# Altium integrated library Capacitors - Ceramic - 0201.IntLib: 1723 symbols (part 23 of 38)
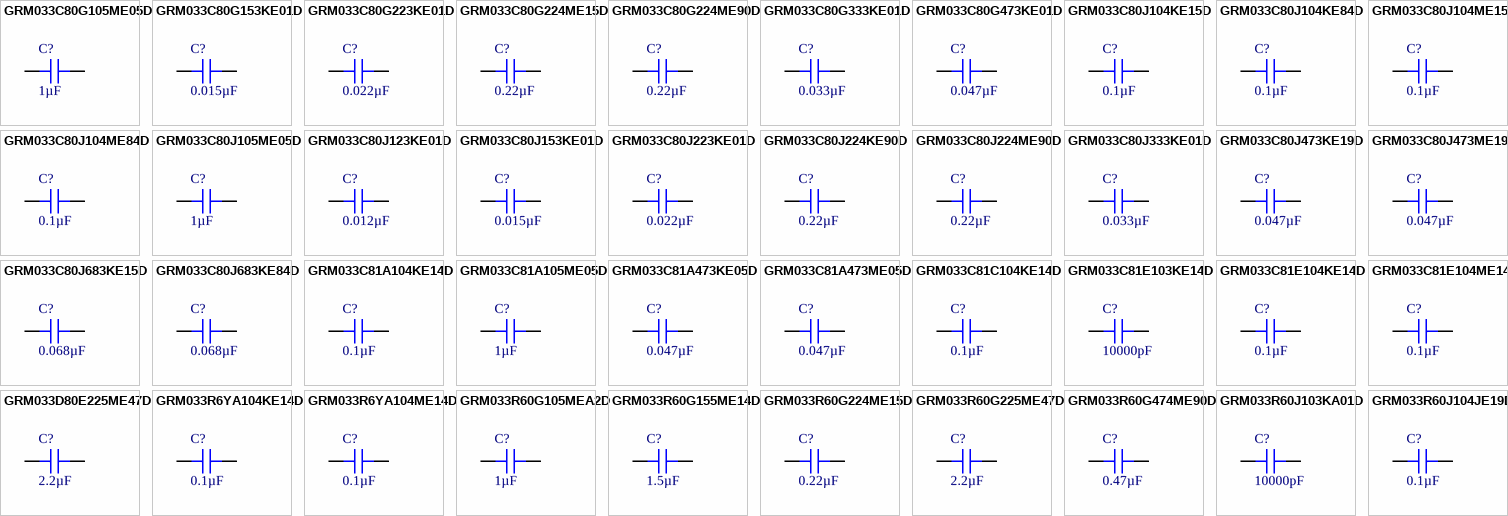
[diagram p65: symbols GRM033C80G105ME05D to GRM033R60J104JE19D]

## GRM033C80G105ME05D
designator C?, comment 1µF
CAP CER 1.0UF X6S 0201; Part Number: GRM033C80G105ME05D; Manufacturer: Murata Electronics; Tolerance: ±20%; Voltage - Rated: 4V; Value: 1µF; Applications: General Purpose; Capacitance: 1µF; ComponentLink1Description: Datasheet; ComponentLink1URL: https://search.murata.co.jp/Ceramy/image/img/A01X/G101/ENG/GRM033C80G105ME05-01A.pdf; ComponentLink2Description: DigiKey Link; ComponentLink2URL: http://digikey.com/product-detail/en/murata-electronics/GRM033C80G105ME05D/490-18622-1-ND/10269027; Device Package: 0201 (0603 Metric); LastUpdated: 9/2/2020 12:58:01 AM; Lifecycle Status: Active; Minimum Order: 1; Mounting Type: Surface Mount, MLCC; Operating Temperature: -55°C ~ 105°C; Package / Case: 0201 (0603 Metric); Packaging: TapeAndReel; PartId: 1594; Part Status: Active; Price: 0.02; Series: GRM; Size / Dimension: 0.024" L x 0.012" W (0.60mm x 0.30mm); Supplier 1: DigiKey; Supplier Part Number 1: 490-18622-1-ND; Temperature Coefficient: X6S; Thickness (Max): 0.015" (0.39mm)
footprint CAP 0201_0603
pins: 1, 2

## GRM033C80G153KE01D
designator C?, comment 0.015µF
CAP CER 0.015UF 4V X6S 0201; Part Number: GRM033C80G153KE01D; Manufacturer: Murata Electronics; Tolerance: ±10%; Value: 0.015µF; Applications: General Purpose; Capacitance: 0.015µF; ComponentLink1Description: Datasheet; ComponentLink1URL: https://www.murata.com/~/media/webrenewal/support/library/catalog/products/capacitor/mlcc/c02e.ashx?la=en-us; ComponentLink2Description: DigiKey Link; ComponentLink2URL: http://digikey.com/product-detail/en/murata-electronics/GRM033C80G153KE01D/490-17016-1-ND/7602015; Device Package: 0201 (0603 Metric); LastUpdated: 9/2/2020 1:00:14 AM; Lifecycle Status: Active; Minimum Order: 1; Mounting Type: Surface Mount, MLCC; Operating Temperature: -55°C ~ 105°C; Package / Case: 0201 (0603 Metric); Packaging: TapeAndReel; PartId: 66; Part Status: Active; Price: 0.01; Series: GRM; Size / Dimension: 0.024" L x 0.012" W (0.60mm x 0.30mm); Supplier 1: DigiKey; Supplier Part Number 1: 490-17016-1-ND; Temperature Coefficient: X6S; Thickness (Max): 0.013" (0.33mm); Voltage - Rated: 4V
footprint CAP 0201_0603
pins: 1, 2

## GRM033C80G223KE01D
designator C?, comment 0.022µF
CAP CER 0.022UF 4V X6S 0201; Part Number: GRM033C80G223KE01D; Manufacturer: Murata Electronics; Tolerance: ±10%; Value: 0.022µF; Applications: General Purpose; Capacitance: 0.022µF; ComponentLink1Description: Datasheet; ComponentLink1URL: https://www.murata.com/~/media/webrenewal/support/library/catalog/products/capacitor/mlcc/c02e.ashx?la=en-us; ComponentLink2Description: DigiKey Link; ComponentLink2URL: http://digikey.com/product-detail/en/murata-electronics/GRM033C80G223KE01D/490-17017-1-ND/7602016; Device Package: 0201 (0603 Metric); LastUpdated: 9/2/2020 1:00:17 AM; Lifecycle Status: Active; Minimum Order: 1; Mounting Type: Surface Mount, MLCC; Operating Temperature: -55°C ~ 105°C; Package / Case: 0201 (0603 Metric); Packaging: TapeAndReel; PartId: 20; Part Status: Active; Price: 0.01; Series: GRM; Size / Dimension: 0.024" L x 0.012" W (0.60mm x 0.30mm); Supplier 1: DigiKey; Supplier Part Number 1: 490-17017-1-ND; Temperature Coefficient: X6S; Thickness (Max): 0.013" (0.33mm); Voltage - Rated: 4V
footprint CAP 0201_0603
pins: 1, 2

## GRM033C80G224ME15D
designator C?, comment 0.22µF
CAP CER 0.22UF 4V X6S 0201; Part Number: GRM033C80G224ME15D; Manufacturer: Murata Electronics; Tolerance: ±20%; Value: 0.22µF; Applications: General Purpose; Capacitance: 0.22µF; ComponentLink1Description: Datasheet; ComponentLink1URL: https://search.murata.co.jp/Ceramy/image/img/A01X/G101/ENG/GRM033C80G224ME15-01.pdf; ComponentLink2Description: DigiKey Link; ComponentLink2URL: http://digikey.com/product-detail/en/murata-electronics/GRM033C80G224ME15D/490-10389-1-ND/5026262; Device Package: 0201 (0603 Metric); LastUpdated: 9/2/2020 1:00:02 AM; Lifecycle Status: Active; Minimum Order: 1; Mounting Type: Surface Mount, MLCC; Operating Temperature: -55°C ~ 105°C; Package / Case: 0201 (0603 Metric); Packaging: TapeAndReel; PartId: 199; Part Status: Active; Price: 0.01; Series: GRM; Size / Dimension: 0.024" L x 0.012" W (0.60mm x 0.30mm); Supplier 1: DigiKey; Supplier Part Number 1: 490-10389-1-ND; Temperature Coefficient: X6S; Thickness (Max): 0.013" (0.33mm); Voltage - Rated: 4V
footprint CAP 0201_0603
pins: 1, 2

## GRM033C80G224ME90D
designator C?, comment 0.22µF
CAP CER 0.22UF 4V X6S 0201; Part Number: GRM033C80G224ME90D; Manufacturer: Murata Electronics; Tolerance: ±20%; Value: 0.22µF; Applications: General Purpose; Capacitance: 0.22µF; ComponentLink1Description: Datasheet; ComponentLink1URL: https://search.murata.co.jp/Ceramy/image/img/A01X/G101/ENG/GRM033C80G224ME90-01.pdf; ComponentLink2Description: DigiKey Link; ComponentLink2URL: http://digikey.com/product-detail/en/murata-electronics/GRM033C80G224ME90D/490-16736-1-ND/7595644; Device Package: 0201 (0603 Metric); LastUpdated: 9/2/2020 12:59:17 AM; Lifecycle Status: Active; Minimum Order: 1; Mounting Type: Surface Mount, MLCC; Operating Temperature: -55°C ~ 105°C; Package / Case: 0201 (0603 Metric); Packaging: TapeAndReel; PartId: 728; Part Status: Active; Price: 0.01; Series: GRM; Size / Dimension: 0.024" L x 0.012" W (0.60mm x 0.30mm); Supplier 1: DigiKey; Supplier Part Number 1: 490-16736-1-ND; Temperature Coefficient: X6S; Thickness (Max): 0.013" (0.33mm); Voltage - Rated: 4V
footprint CAP 0201_0603
pins: 1, 2

## GRM033C80G333KE01D
designator C?, comment 0.033µF
CAP CER 0.033UF 4V X6S 0201; Part Number: GRM033C80G333KE01D; Manufacturer: Murata Electronics; Tolerance: ±10%; Value: 0.033µF; Applications: General Purpose; Capacitance: 0.033µF; ComponentLink1Description: Datasheet; ComponentLink1URL: https://www.murata.com/~/media/webrenewal/support/library/catalog/products/capacitor/mlcc/c02e.ashx?la=en-us; ComponentLink2Description: DigiKey Link; ComponentLink2URL: http://digikey.com/product-detail/en/murata-electronics/GRM033C80G333KE01D/490-17018-1-ND/7602017; Device Package: 0201 (0603 Metric); LastUpdated: 9/2/2020 1:00:12 AM; Lifecycle Status: Active; Minimum Order: 1; Mounting Type: Surface Mount, MLCC; Operating Temperature: -55°C ~ 105°C; Package / Case: 0201 (0603 Metric); Packaging: TapeAndReel; PartId: 82; Part Status: Active; Price: 0.01; Series: GRM; Size / Dimension: 0.024" L x 0.012" W (0.60mm x 0.30mm); Supplier 1: DigiKey; Supplier Part Number 1: 490-17018-1-ND; Temperature Coefficient: X6S; Thickness (Max): 0.013" (0.33mm); Voltage - Rated: 4V
footprint CAP 0201_0603
pins: 1, 2

## GRM033C80G473KE01D
designator C?, comment 0.047µF
CAP CER 0.047UF 4V X6S 0201; Part Number: GRM033C80G473KE01D; Manufacturer: Murata Electronics; Tolerance: ±10%; Value: 0.047µF; Applications: General Purpose; Capacitance: 0.047µF; ComponentLink1Description: Datasheet; ComponentLink1URL: https://www.murata.com/~/media/webrenewal/support/library/catalog/products/capacitor/mlcc/c02e.ashx?la=en-us; ComponentLink2Description: DigiKey Link; ComponentLink2URL: http://digikey.com/product-detail/en/murata-electronics/GRM033C80G473KE01D/490-17019-1-ND/7602018; Device Package: 0201 (0603 Metric); LastUpdated: 9/2/2020 12:58:05 AM; Lifecycle Status: Active; Minimum Order: 1; Mounting Type: Surface Mount, MLCC; Operating Temperature: -55°C ~ 105°C; Package / Case: 0201 (0603 Metric); Packaging: TapeAndReel; PartId: 1545; Part Status: Active; Price: 0.01; Series: GRM; Size / Dimension: 0.024" L x 0.012" W (0.60mm x 0.30mm); Supplier 1: DigiKey; Supplier Part Number 1: 490-17019-1-ND; Temperature Coefficient: X6S; Thickness (Max): 0.013" (0.33mm); Voltage - Rated: 4V
footprint CAP 0201_0603
pins: 1, 2

## GRM033C80J104KE15D
designator C?, comment 0.1µF
CAP CER 0.1UF 6.3V X6S 0201; Part Number: GRM033C80J104KE15D; Manufacturer: Murata Electronics; Tolerance: ±10%; Value: 0.1µF; Applications: General Purpose; Capacitance: 0.1µF; ComponentLink1Description: Datasheet; ComponentLink1URL: https://search.murata.co.jp/Ceramy/image/img/A01X/G101/ENG/GRM033C80J104KE15-01.pdf; ComponentLink2Description: DigiKey Link; ComponentLink2URL: http://digikey.com/product-detail/en/murata-electronics/GRM033C80J104KE15D/490-10390-1-ND/5026263; Device Package: 0201 (0603 Metric); LastUpdated: 9/2/2020 12:58:57 AM; Lifecycle Status: Active; Minimum Order: 1; Mounting Type: Surface Mount, MLCC; Operating Temperature: -55°C ~ 105°C; Package / Case: 0201 (0603 Metric); Packaging: CutTape; PartId: 956; Part Status: Active; Price: 0.10; Series: GRM; Size / Dimension: 0.024" L x 0.012" W (0.60mm x 0.30mm); Supplier 1: DigiKey; Supplier Part Number 1: 490-10390-1-ND; Temperature Coefficient: X6S; Thickness (Max): 0.013" (0.33mm); Voltage - Rated: 6.3V
footprint CAP 0201_0603
pins: 1, 2

## GRM033C80J104KE84D
designator C?, comment 0.1µF
CAP CER 0.1UF 6.3V X6S 0201; Part Number: GRM033C80J104KE84D; Manufacturer: Murata Electronics; Tolerance: ±10%; Value: 0.1µF; Applications: General Purpose; Capacitance: 0.1µF; ComponentLink1Description: Datasheet; ComponentLink1URL: https://search.murata.co.jp/Ceramy/image/img/A01X/G101/ENG/GRM033C80J104KE84-01.pdf; ComponentLink2Description: DigiKey Link; ComponentLink2URL: http://digikey.com/product-detail/en/murata-electronics/GRM033C80J104KE84D/490-9980-1-ND/5026264; Device Package: 0201 (0603 Metric); LastUpdated: 9/2/2020 12:59:15 AM; Lifecycle Status: Active; Minimum Order: 1; Mounting Type: Surface Mount, MLCC; Operating Temperature: -55°C ~ 105°C; Package / Case: 0201 (0603 Metric); Packaging: TapeAndReel; PartId: 750; Part Status: Active; Price: 0.01; Series: GRM; Size / Dimension: 0.024" L x 0.012" W (0.60mm x 0.30mm); Supplier 1: DigiKey; Supplier Part Number 1: 490-9980-1-ND; Temperature Coefficient: X6S; Thickness (Max): 0.013" (0.33mm); Voltage - Rated: 6.3V
footprint CAP 0201_0603
pins: 1, 2

## GRM033C80J104ME15D
designator C?, comment 0.1µF
CAP CER 0.1UF 6.3V X6S 0201; Part Number: GRM033C80J104ME15D; Manufacturer: Murata Electronics; Tolerance: ±20%; Value: 0.1µF; Applications: General Purpose; Capacitance: 0.1µF; ComponentLink1Description: Datasheet; ComponentLink1URL: https://search.murata.co.jp/Ceramy/image/img/A01X/G101/ENG/GRM033C80J104ME15-01.pdf; ComponentLink2Description: DigiKey Link; ComponentLink2URL: http://digikey.com/product-detail/en/murata-electronics/GRM033C80J104ME15D/490-10391-1-ND/5026265; Device Package: 0201 (0603 Metric); LastUpdated: 9/2/2020 12:58:57 AM; Lifecycle Status: Active; Minimum Order: 1; Mounting Type: Surface Mount, MLCC; Operating Temperature: -55°C ~ 105°C; Package / Case: 0201 (0603 Metric); Packaging: CutTape; PartId: 961; Part Status: Active; Price: 0.10; Series: GRM; Size / Dimension: 0.024" L x 0.012" W (0.60mm x 0.30mm); Supplier 1: DigiKey; Supplier Part Number 1: 490-10391-1-ND; Temperature Coefficient: X6S; Thickness (Max): 0.013" (0.33mm); Voltage - Rated: 6.3V
footprint CAP 0201_0603
pins: 1, 2

## GRM033C80J104ME84D
designator C?, comment 0.1µF
CAP CER 0.1UF 6.3V X6S 0201; Part Number: GRM033C80J104ME84D; Manufacturer: Murata Electronics; Tolerance: ±20%; Value: 0.1µF; Applications: General Purpose; Capacitance: 0.1µF; ComponentLink1Description: Datasheet; ComponentLink1URL: https://search.murata.co.jp/Ceramy/image/img/A01X/G101/ENG/GRM033C80J104ME84-01.pdf; ComponentLink2Description: DigiKey Link; ComponentLink2URL: http://digikey.com/product-detail/en/murata-electronics/GRM033C80J104ME84D/490-9981-1-ND/5026266; Device Package: 0201 (0603 Metric); LastUpdated: 9/2/2020 12:59:14 AM; Lifecycle Status: Active; Minimum Order: 1; Mounting Type: Surface Mount, MLCC; Operating Temperature: -55°C ~ 105°C; Package / Case: 0201 (0603 Metric); Packaging: TapeAndReel; PartId: 755; Part Status: Active; Price: 0.01; Series: GRM; Size / Dimension: 0.024" L x 0.012" W (0.60mm x 0.30mm); Supplier 1: DigiKey; Supplier Part Number 1: 490-9981-1-ND; Temperature Coefficient: X6S; Thickness (Max): 0.013" (0.33mm); Voltage - Rated: 6.3V
footprint CAP 0201_0603
pins: 1, 2

## GRM033C80J105ME05D
designator C?, comment 1µF
CAP CER 1UF 6.3V X6S 0201; Part Number: GRM033C80J105ME05D; Manufacturer: Murata Electronics; Tolerance: ±20%; Value: 1µF; Applications: General Purpose; Capacitance: 1µF; ComponentLink1Description: Datasheet; ComponentLink1URL: https://www.murata.com/~/media/webrenewal/support/library/catalog/products/capacitor/mlcc/c02e.ashx?la=en-us; ComponentLink2Description: DigiKey Link; ComponentLink2URL: http://digikey.com/product-detail/en/murata-electronics/GRM033C80J105ME05D/490-13218-1-ND/5877426; Device Package: 0201 (0603 Metric); LastUpdated: 9/2/2020 12:59:45 AM; Lifecycle Status: Active; Minimum Order: 1; Mounting Type: Surface Mount, MLCC; Operating Temperature: -55°C ~ 105°C; Package / Case: 0201 (0603 Metric); Packaging: TapeAndReel; PartId: 407; Part Status: Active; Price: 0.04; Series: GRM; Size / Dimension: 0.024" L x 0.012" W (0.60mm x 0.30mm); Supplier 1: DigiKey; Supplier Part Number 1: 490-13218-1-ND; Temperature Coefficient: X6S; Thickness (Max): 0.015" (0.39mm); Voltage - Rated: 6.3V
footprint CAP 0201_0603
pins: 1, 2

## GRM033C80J123KE01D
designator C?, comment 0.012µF
CAP CER 0.012UF 6.3V X6S 0201; Part Number: GRM033C80J123KE01D; Manufacturer: Murata Electronics; Tolerance: ±10%; Value: 0.012µF; Applications: General Purpose; Capacitance: 0.012µF; ComponentLink1Description: Datasheet; ComponentLink1URL: https://www.murata.com/~/media/webrenewal/support/library/catalog/products/capacitor/mlcc/c02e.ashx?la=en-us; ComponentLink2Description: DigiKey Link; ComponentLink2URL: http://digikey.com/product-detail/en/murata-electronics/GRM033C80J123KE01D/490-11351-1-ND/5333191; Device Package: 0201 (0603 Metric); LastUpdated: 9/2/2020 12:58:17 AM; Lifecycle Status: Active; Minimum Order: 1; Mounting Type: Surface Mount, MLCC; Operating Temperature: -55°C ~ 105°C; Package / Case: 0201 (0603 Metric); Packaging: TapeAndReel; PartId: 1418; Part Status: Active; Price: 0.01; Series: GRM; Size / Dimension: 0.024" L x 0.012" W (0.60mm x 0.30mm); Supplier 1: DigiKey; Supplier Part Number 1: 490-11351-1-ND; Temperature Coefficient: X6S; Thickness (Max): 0.013" (0.33mm); Voltage - Rated: 6.3V
footprint CAP 0201_0603
pins: 1, 2

## GRM033C80J153KE01D
designator C?, comment 0.015µF
CAP CER 0.015UF 6.3V X6S 0201; Part Number: GRM033C80J153KE01D; Manufacturer: Murata Electronics; Tolerance: ±10%; Value: 0.015µF; Applications: General Purpose; Capacitance: 0.015µF; ComponentLink1Description: Datasheet; ComponentLink1URL: https://www.murata.com/~/media/webrenewal/support/library/catalog/products/capacitor/mlcc/c02e.ashx?la=en-us; ComponentLink2Description: DigiKey Link; ComponentLink2URL: http://digikey.com/product-detail/en/murata-electronics/GRM033C80J153KE01D/490-17008-1-ND/7602007; Device Package: 0201 (0603 Metric); LastUpdated: 9/2/2020 12:58:35 AM; Lifecycle Status: Active; Minimum Order: 1; Mounting Type: Surface Mount, MLCC; Operating Temperature: -55°C ~ 105°C; Package / Case: 0201 (0603 Metric); Packaging: TapeAndReel; PartId: 1220; Part Status: Active; Price: 0.01; Series: GRM; Size / Dimension: 0.024" L x 0.012" W (0.60mm x 0.30mm); Supplier 1: DigiKey; Supplier Part Number 1: 490-17008-1-ND; Temperature Coefficient: X6S; Thickness (Max): 0.013" (0.33mm); Voltage - Rated: 6.3V
footprint CAP 0201_0603
pins: 1, 2

## GRM033C80J223KE01D
designator C?, comment 0.022µF
CAP CER 0.022UF 6.3V X6S 0201; Part Number: GRM033C80J223KE01D; Manufacturer: Murata Electronics; Tolerance: ±10%; Value: 0.022µF; Applications: General Purpose; Capacitance: 0.022µF; ComponentLink1Description: Datasheet; ComponentLink1URL: https://www.murata.com/~/media/webrenewal/support/library/catalog/products/capacitor/mlcc/c02e.ashx?la=en-us; ComponentLink2Description: DigiKey Link; ComponentLink2URL: http://digikey.com/product-detail/en/murata-electronics/GRM033C80J223KE01D/490-8154-1-ND/4380447; Device Package: 0201 (0603 Metric); LastUpdated: 9/2/2020 12:59:14 AM; Lifecycle Status: Active; Minimum Order: 1; Mounting Type: Surface Mount, MLCC; Operating Temperature: -55°C ~ 105°C; Package / Case: 0201 (0603 Metric); Packaging: TapeAndReel; PartId: 754; Part Status: Active; Price: 0.01; Series: GRM; Size / Dimension: 0.024" L x 0.012" W (0.60mm x 0.30mm); Supplier 1: DigiKey; Supplier Part Number 1: 490-8154-1-ND; Temperature Coefficient: X6S; Thickness (Max): 0.013" (0.33mm); Voltage - Rated: 6.3V
footprint CAP 0201_0603
pins: 1, 2

## GRM033C80J224KE90D
designator C?, comment 0.22µF
CAP CER 0.22UF 6.3V X6S 0201; Part Number: GRM033C80J224KE90D; Manufacturer: Murata Electronics; Tolerance: ±10%; Value: 0.22µF; Applications: General Purpose; Capacitance: 0.22µF; ComponentLink1Description: Datasheet; ComponentLink1URL: https://search.murata.co.jp/Ceramy/image/img/A01X/G101/ENG/GRM033C80J224KE90-01.pdf; ComponentLink2Description: DigiKey Link; ComponentLink2URL: http://digikey.com/product-detail/en/murata-electronics/GRM033C80J224KE90D/490-10392-1-ND/5026267; Device Package: 0201 (0603 Metric); LastUpdated: 9/2/2020 12:58:14 AM; Lifecycle Status: Active; Minimum Order: 1; Mounting Type: Surface Mount, MLCC; Operating Temperature: -55°C ~ 105°C; Package / Case: 0201 (0603 Metric); Packaging: TapeAndReel; PartId: 1450; Part Status: Active; Price: 0.01; Series: GRM; Size / Dimension: 0.024" L x 0.012" W (0.60mm x 0.30mm); Supplier 1: DigiKey; Supplier Part Number 1: 490-10392-1-ND; Temperature Coefficient: X6S; Thickness (Max): 0.013" (0.33mm); Voltage - Rated: 6.3V
footprint CAP 0201_0603
pins: 1, 2

## GRM033C80J224ME90D
designator C?, comment 0.22µF
CAP CER 0.22UF 6.3V X6S 0201; Part Number: GRM033C80J224ME90D; Manufacturer: Murata Electronics; Tolerance: ±20%; Value: 0.22µF; Applications: General Purpose; Capacitance: 0.22µF; ComponentLink1Description: Datasheet; ComponentLink1URL: https://search.murata.co.jp/Ceramy/image/img/A01X/G101/ENG/GRM033C80J224ME90-01.pdf; ComponentLink2Description: DigiKey Link; ComponentLink2URL: http://digikey.com/product-detail/en/murata-electronics/GRM033C80J224ME90D/490-9982-1-ND/5026268; Device Package: 0201 (0603 Metric); LastUpdated: 9/2/2020 1:00:10 AM; Lifecycle Status: Active; Minimum Order: 1; Mounting Type: Surface Mount, MLCC; Operating Temperature: -55°C ~ 105°C; Package / Case: 0201 (0603 Metric); Packaging: TapeAndReel; PartId: 118; Part Status: Active; Price: 0.01; Series: GRM; Size / Dimension: 0.024" L x 0.012" W (0.60mm x 0.30mm); Supplier 1: DigiKey; Supplier Part Number 1: 490-9982-1-ND; Temperature Coefficient: X6S; Thickness (Max): 0.013" (0.33mm); Voltage - Rated: 6.3V
footprint CAP 0201_0603
pins: 1, 2

## GRM033C80J333KE01D
designator C?, comment 0.033µF
CAP CER 0.033UF 6.3V X6S 0201; Part Number: GRM033C80J333KE01D; Manufacturer: Murata Electronics; Tolerance: ±10%; Value: 0.033µF; Applications: General Purpose; Capacitance: 0.033µF; ComponentLink1Description: Datasheet; ComponentLink1URL: https://www.murata.com/~/media/webrenewal/support/library/catalog/products/capacitor/mlcc/c02e.ashx?la=en-us; ComponentLink2Description: DigiKey Link; ComponentLink2URL: http://digikey.com/product-detail/en/murata-electronics/GRM033C80J333KE01D/490-17011-1-ND/7602010; Device Package: 0201 (0603 Metric); LastUpdated: 9/2/2020 12:58:22 AM; Lifecycle Status: Active; Minimum Order: 1; Mounting Type: Surface Mount, MLCC; Operating Temperature: -55°C ~ 105°C; Package / Case: 0201 (0603 Metric); Packaging: TapeAndReel; PartId: 1365; Part Status: Active; Price: 0.01; Series: GRM; Size / Dimension: 0.024" L x 0.012" W (0.60mm x 0.30mm); Supplier 1: DigiKey; Supplier Part Number 1: 490-17011-1-ND; Temperature Coefficient: X6S; Thickness (Max): 0.013" (0.33mm); Voltage - Rated: 6.3V
footprint CAP 0201_0603
pins: 1, 2

## GRM033C80J473KE19D
designator C?, comment 0.047µF
CAP CER 0.047UF 6.3V X6S 0201; Part Number: GRM033C80J473KE19D; Manufacturer: Murata Electronics; Tolerance: ±10%; Value: 0.047µF; Applications: General Purpose; Capacitance: 0.047µF; ComponentLink1Description: Datasheet; ComponentLink1URL: https://www.murata.com/~/media/webrenewal/support/library/catalog/products/capacitor/mlcc/c02e.ashx?la=en-us; ComponentLink2Description: DigiKey Link; ComponentLink2URL: http://digikey.com/product-detail/en/murata-electronics/GRM033C80J473KE19D/490-6139-1-ND/3845339; Device Package: 0201 (0603 Metric); LastUpdated: 9/2/2020 12:59:15 AM; Lifecycle Status: Active; Minimum Order: 1; Mounting Type: Surface Mount, MLCC; Operating Temperature: -55°C ~ 105°C; Package / Case: 0201 (0603 Metric); Packaging: TapeAndReel; PartId: 751; Part Status: Active; Price: 0.01; Series: GRM; Size / Dimension: 0.024" L x 0.012" W (0.60mm x 0.30mm); Supplier 1: DigiKey; Supplier Part Number 1: 490-6139-1-ND; Temperature Coefficient: X6S; Thickness (Max): 0.013" (0.33mm); Voltage - Rated: 6.3V
footprint CAP 0201_0603
pins: 1, 2

## GRM033C80J473ME19D
designator C?, comment 0.047µF
CAP CER 0.047UF 6.3V X6S 0201; Part Number: GRM033C80J473ME19D; Manufacturer: Murata Electronics; Tolerance: ±20%; Value: 0.047µF; Applications: General Purpose; Capacitance: 0.047µF; ComponentLink1Description: Datasheet; ComponentLink1URL: https://search.murata.co.jp/Ceramy/image/img/A01X/G101/ENG/GRM033C80J473ME19-01.pdf; ComponentLink2Description: DigiKey Link; ComponentLink2URL: http://digikey.com/product-detail/en/murata-electronics/GRM033C80J473ME19D/490-16737-1-ND/7595645; Device Package: 0201 (0603 Metric); LastUpdated: 9/2/2020 12:58:05 AM; Lifecycle Status: Active; Minimum Order: 1; Mounting Type: Surface Mount, MLCC; Operating Temperature: -55°C ~ 105°C; Package / Case: 0201 (0603 Metric); Packaging: TapeAndReel; PartId: 1544; Part Status: Active; Price: 0.01; Series: GRM; Size / Dimension: 0.024" L x 0.012" W (0.60mm x 0.30mm); Supplier 1: DigiKey; Supplier Part Number 1: 490-16737-1-ND; Temperature Coefficient: X6S; Thickness (Max): 0.013" (0.33mm); Voltage - Rated: 6.3V
footprint CAP 0201_0603
pins: 1, 2

## GRM033C80J683KE15D
designator C?, comment 0.068µF
CAP CER 0.068UF 6.3V X6S 0201; Part Number: GRM033C80J683KE15D; Manufacturer: Murata Electronics; Tolerance: ±10%; Value: 0.068µF; Applications: General Purpose; Capacitance: 0.068µF; ComponentLink1Description: Datasheet; ComponentLink1URL: https://search.murata.co.jp/Ceramy/image/img/A01X/G101/ENG/GRM033C80J683KE15-01.pdf; ComponentLink2Description: DigiKey Link; ComponentLink2URL: http://digikey.com/product-detail/en/murata-electronics/GRM033C80J683KE15D/490-10397-1-ND/5026273; Device Package: 0201 (0603 Metric); LastUpdated: 9/2/2020 12:58:22 AM; Lifecycle Status: Active; Minimum Order: 1; Mounting Type: Surface Mount, MLCC; Operating Temperature: -55°C ~ 105°C; Package / Case: 0201 (0603 Metric); Packaging: CutTape; PartId: 1366; Part Status: Active; Price: 0.10; Series: GRM; Size / Dimension: 0.024" L x 0.012" W (0.60mm x 0.30mm); Supplier 1: DigiKey; Supplier Part Number 1: 490-10397-1-ND; Temperature Coefficient: X6S; Thickness (Max): 0.013" (0.33mm); Voltage - Rated: 6.3V
footprint CAP 0201_0603
pins: 1, 2

## GRM033C80J683KE84D
designator C?, comment 0.068µF
CAP CER 0.068UF 6.3V X6S 0201; Part Number: GRM033C80J683KE84D; Manufacturer: Murata Electronics; Tolerance: ±10%; Value: 0.068µF; Applications: General Purpose; Capacitance: 0.068µF; ComponentLink1Description: Datasheet; ComponentLink1URL: https://www.murata.com/~/media/webrenewal/support/library/catalog/products/capacitor/mlcc/c02e.ashx?la=en-us; ComponentLink2Description: DigiKey Link; ComponentLink2URL: http://digikey.com/product-detail/en/murata-electronics/GRM033C80J683KE84D/490-7193-1-ND/3900509; Device Package: 0201 (0603 Metric); LastUpdated: 9/2/2020 12:58:50 AM; Lifecycle Status: Active; Minimum Order: 1; Mounting Type: Surface Mount, MLCC; Operating Temperature: -55°C ~ 105°C; Package / Case: 0201 (0603 Metric); Packaging: TapeAndReel; PartId: 1047; Part Status: Active; Price: 0.01; Series: GRM; Size / Dimension: 0.024" L x 0.012" W (0.60mm x 0.30mm); Supplier 1: DigiKey; Supplier Part Number 1: 490-7193-1-ND; Temperature Coefficient: X6S; Thickness (Max): 0.013" (0.33mm); Voltage - Rated: 6.3V
footprint CAP 0201_0603
pins: 1, 2

## GRM033C81A104KE14D
designator C?, comment 0.1µF
CAP CER 0.1UF 10V X6S 0201; Part Number: GRM033C81A104KE14D; Manufacturer: Murata Electronics; Tolerance: ±10%; Value: 0.1µF; Applications: General Purpose; Capacitance: 0.1µF; ComponentLink1Description: Datasheet; ComponentLink1URL: https://search.murata.co.jp/Ceramy/image/img/A01X/G101/ENG/GRM033C81A104KE14-01.pdf; ComponentLink2Description: DigiKey Link; ComponentLink2URL: http://digikey.com/product-detail/en/murata-electronics/GRM033C81A104KE14D/490-17002-1-ND/7602001; Device Package: 0201 (0603 Metric); LastUpdated: 9/2/2020 12:58:49 AM; Lifecycle Status: Active; Minimum Order: 1; Mounting Type: Surface Mount, MLCC; Operating Temperature: -55°C ~ 105°C; Package / Case: 0201 (0603 Metric); Packaging: TapeAndReel; PartId: 1049; Part Status: Active; Price: 0.01; Series: GRM; Size / Dimension: 0.024" L x 0.012" W (0.60mm x 0.30mm); Supplier 1: DigiKey; Supplier Part Number 1: 490-17002-1-ND; Temperature Coefficient: X6S; Thickness (Max): 0.013" (0.33mm); Voltage - Rated: 10V
footprint CAP 0201_0603
pins: 1, 2

## GRM033C81A105ME05D
designator C?, comment 1µF
CAP CER 1UF 10V X6S 0201; Part Number: GRM033C81A105ME05D; Manufacturer: Murata Electronics; Tolerance: ±20%; Value: 1µF; Applications: General Purpose; Capacitance: 1µF; ComponentLink1Description: Datasheet; ComponentLink1URL: https://www.murata.com/~/media/webrenewal/support/library/catalog/products/capacitor/mlcc/c02e.ashx?la=en-us; ComponentLink2Description: DigiKey Link; ComponentLink2URL: http://digikey.com/product-detail/en/murata-electronics/GRM033C81A105ME05D/490-13219-1-ND/5877427; Device Package: 0201 (0603 Metric); LastUpdated: 9/2/2020 12:58:08 AM; Lifecycle Status: Active; Minimum Order: 1; Mounting Type: Surface Mount, MLCC; Operating Temperature: -55°C ~ 105°C; Package / Case: 0201 (0603 Metric); Packaging: TapeAndReel; PartId: 1510; Part Status: Active; Price: 0.07; Series: GRM; Size / Dimension: 0.024" L x 0.012" W (0.60mm x 0.30mm); Supplier 1: DigiKey; Supplier Part Number 1: 490-13219-1-ND; Temperature Coefficient: X6S; Thickness (Max): 0.015" (0.39mm); Voltage - Rated: 10V
footprint CAP 0201_0603
pins: 1, 2

## GRM033C81A473KE05D
designator C?, comment 0.047µF
CAP CER 0.047UF 10V X6S 0201; Part Number: GRM033C81A473KE05D; Manufacturer: Murata Electronics; Tolerance: ±10%; Value: 0.047µF; Applications: General Purpose; Capacitance: 0.047µF; ComponentLink1Description: Datasheet; ComponentLink1URL: https://search.murata.co.jp/Ceramy/image/img/A01X/G101/ENG/GRM033C81A473KE05-01.pdf; ComponentLink2Description: DigiKey Link; ComponentLink2URL: http://digikey.com/product-detail/en/murata-electronics/GRM033C81A473KE05D/490-16365-1-ND/7363347; Device Package: 0201 (0603 Metric); LastUpdated: 9/2/2020 12:58:20 AM; Lifecycle Status: Active; Minimum Order: 1; Mounting Type: Surface Mount, MLCC; Operating Temperature: -55°C ~ 105°C; Package / Case: 0201 (0603 Metric); Packaging: TapeAndReel; PartId: 1387; Part Status: Active; Price: 0.01; Series: GRM; Size / Dimension: 0.024" L x 0.012" W (0.60mm x 0.30mm); Supplier 1: DigiKey; Supplier Part Number 1: 490-16365-1-ND; Temperature Coefficient: X6S; Thickness (Max): 0.013" (0.33mm); Voltage - Rated: 10V
footprint CAP 0201_0603
pins: 1, 2

## GRM033C81A473ME05D
designator C?, comment 0.047µF
CAP CER 0.047UF 10V X6S 0201; Part Number: GRM033C81A473ME05D; Manufacturer: Murata Electronics; Tolerance: ±20%; Value: 0.047µF; Applications: General Purpose; Capacitance: 0.047µF; ComponentLink1Description: Datasheet; ComponentLink1URL: https://www.murata.com/~/media/webrenewal/support/library/catalog/products/capacitor/mlcc/c02e.ashx?la=en-us; ComponentLink2Description: DigiKey Link; ComponentLink2URL: http://digikey.com/product-detail/en/murata-electronics/GRM033C81A473ME05D/490-17004-1-ND/7602003; Device Package: 0201 (0603 Metric); LastUpdated: 9/2/2020 12:58:21 AM; Lifecycle Status: Active; Minimum Order: 1; Mounting Type: Surface Mount, MLCC; Operating Temperature: -55°C ~ 105°C; Package / Case: 0201 (0603 Metric); Packaging: TapeAndReel; PartId: 1370; Part Status: Active; Price: 0.01; Series: GRM; Size / Dimension: 0.024" L x 0.012" W (0.60mm x 0.30mm); Supplier 1: DigiKey; Supplier Part Number 1: 490-17004-1-ND; Temperature Coefficient: X6S; Thickness (Max): 0.013" (0.33mm); Voltage - Rated: 10V
footprint CAP 0201_0603
pins: 1, 2

## GRM033C81C104KE14D
designator C?, comment 0.1µF
CAP CER 0.1UF 16V X6S 0201; Part Number: GRM033C81C104KE14D; Manufacturer: Murata Electronics; Tolerance: ±10%; Value: 0.1µF; Applications: General Purpose; Capacitance: 0.1µF; ComponentLink1Description: Datasheet; ComponentLink1URL: https://search.murata.co.jp/Ceramy/image/img/A01X/G101/ENG/GRM033C81C104KE14-01.pdf; ComponentLink2Description: DigiKey Link; ComponentLink2URL: http://digikey.com/product-detail/en/murata-electronics/GRM033C81C104KE14D/490-17001-1-ND/7602000; Device Package: 0201 (0603 Metric); LastUpdated: 9/2/2020 12:58:14 AM; Lifecycle Status: Active; Minimum Order: 1; Mounting Type: Surface Mount, MLCC; Operating Temperature: -55°C ~ 105°C; Package / Case: 0201 (0603 Metric); Packaging: TapeAndReel; PartId: 1447; Part Status: Active; Price: 0.01; Series: GRM; Size / Dimension: 0.024" L x 0.012" W (0.60mm x 0.30mm); Supplier 1: DigiKey; Supplier Part Number 1: 490-17001-1-ND; Temperature Coefficient: X6S; Thickness (Max): 0.013" (0.33mm); Voltage - Rated: 16V
footprint CAP 0201_0603
pins: 1, 2

## GRM033C81E103KE14D
designator C?, comment 10000pF
CAP CER 10000PF 25V X6S 0201; Part Number: GRM033C81E103KE14D; Manufacturer: Murata Electronics; Tolerance: ±10%; Value: 10000pF; Applications: General Purpose; Capacitance: 10000pF; ComponentLink1Description: Datasheet; ComponentLink1URL: https://search.murata.co.jp/Ceramy/image/img/A01X/G101/ENG/GRM033C81E103KE14-01.pdf; ComponentLink2Description: DigiKey Link; ComponentLink2URL: http://digikey.com/product-detail/en/murata-electronics/GRM033C81E103KE14D/490-16999-1-ND/7601998; Device Package: 0201 (0603 Metric); LastUpdated: 9/2/2020 12:58:23 AM; Lifecycle Status: Active; Minimum Order: 1; Mounting Type: Surface Mount, MLCC; Operating Temperature: -55°C ~ 105°C; Package / Case: 0201 (0603 Metric); Packaging: CutTape; PartId: 1356; Part Status: Active; Price: 0.10; Series: GRM; Size / Dimension: 0.024" L x 0.012" W (0.60mm x 0.30mm); Supplier 1: DigiKey; Supplier Part Number 1: 490-16999-1-ND; Temperature Coefficient: X6S; Thickness (Max): 0.013" (0.33mm); Voltage - Rated: 25V
footprint CAP 0201_0603
pins: 1, 2

## GRM033C81E104KE14D
designator C?, comment 0.1µF
CAP CER 0.1UF 25V X6S 0201; Part Number: GRM033C81E104KE14D; Manufacturer: Murata Electronics; Tolerance: ±10%; Value: 0.1µF; Applications: General Purpose; Capacitance: 0.1µF; ComponentLink1Description: Datasheet; ComponentLink1URL: https://search.murata.co.jp/Ceramy/image/img/A01X/G101/ENG/GRM033C81E104KE14-01.pdf; ComponentLink2Description: DigiKey Link; ComponentLink2URL: http://digikey.com/product-detail/en/murata-electronics/GRM033C81E104KE14D/490-10403-1-ND/5026280; Device Package: 0201 (0603 Metric); LastUpdated: 9/2/2020 12:58:08 AM; Lifecycle Status: Active; Minimum Order: 1; Mounting Type: Surface Mount, MLCC; Operating Temperature: -55°C ~ 105°C; Package / Case: 0201 (0603 Metric); Packaging: TapeAndReel; PartId: 1518; Part Status: Active; Price: 0.01; Series: GRM; Size / Dimension: 0.024" L x 0.012" W (0.60mm x 0.30mm); Supplier 1: DigiKey; Supplier Part Number 1: 490-10403-1-ND; Temperature Coefficient: X6S; Thickness (Max): 0.013" (0.33mm); Voltage - Rated: 25V
footprint CAP 0201_0603
pins: 1, 2

## GRM033C81E104ME14D
designator C?, comment 0.1µF
CAP CER 0.1UF 25V X6S 0201; Part Number: GRM033C81E104ME14D; Manufacturer: Murata Electronics; Tolerance: ±20%; Value: 0.1µF; Applications: General Purpose; Capacitance: 0.1µF; ComponentLink1Description: Datasheet; ComponentLink1URL: https://search.murata.co.jp/Ceramy/image/img/A01X/G101/ENG/GRM033C81E104ME14-01.pdf; ComponentLink2Description: DigiKey Link; ComponentLink2URL: http://digikey.com/product-detail/en/murata-electronics/GRM033C81E104ME14D/490-10404-1-ND/5026281; Device Package: 0201 (0603 Metric); LastUpdated: 9/2/2020 12:58:08 AM; Lifecycle Status: Active; Minimum Order: 1; Mounting Type: Surface Mount, MLCC; Operating Temperature: -55°C ~ 105°C; Package / Case: 0201 (0603 Metric); Packaging: TapeAndReel; PartId: 1519; Part Status: Active; Price: 0.01; Series: GRM; Size / Dimension: 0.024" L x 0.012" W (0.60mm x 0.30mm); Supplier 1: DigiKey; Supplier Part Number 1: 490-10404-1-ND; Temperature Coefficient: X6S; Thickness (Max): 0.013" (0.33mm); Voltage - Rated: 25V
footprint CAP 0201_0603
pins: 1, 2

## GRM033D80E225ME47D
designator C?, comment 2.2µF
CAP CER 2.2UF 2.5V X6T 0201; Part Number: GRM033D80E225ME47D; Manufacturer: Murata Electronics; Tolerance: ±20%; Value: 2.2µF; Applications: General Purpose; Capacitance: 2.2µF; ComponentLink1Description: Datasheet; ComponentLink1URL: https://search.murata.co.jp/Ceramy/image/img/A01X/G101/ENG/GRM033D80E225ME47-04A.pdf; ComponentLink2Description: DigiKey Link; ComponentLink2URL: http://digikey.com/product-detail/en/murata-electronics/GRM033D80E225ME47D/490-18653-1-ND/10326318; Device Package: 0201 (0603 Metric); LastUpdated: 9/2/2020 12:58:11 AM; Lifecycle Status: Active; Minimum Order: 1; Mounting Type: Surface Mount, MLCC; Operating Temperature: -55°C ~ 105°C; Package / Case: 0201 (0603 Metric); Packaging: TapeAndReel; PartId: 1476; Part Status: Active; Price: 0.02; Series: GRM; Size / Dimension: 0.024" L x 0.012" W (0.60mm x 0.30mm); Supplier 1: DigiKey; Supplier Part Number 1: 490-18653-1-ND; Temperature Coefficient: X6T; Thickness (Max): 0.015" (0.39mm); Voltage - Rated: 2.5V
footprint CAP 0201_0603
pins: 1, 2

## GRM033R6YA104KE14D
designator C?, comment 0.1µF
CAP CER 0.1UF 35V X5R 0201; Part Number: GRM033R6YA104KE14D; Manufacturer: Murata Electronics; Tolerance: ±10%; Value: 0.1µF; Applications: General Purpose; Capacitance: 0.1µF; ComponentLink1Description: Datasheet; ComponentLink1URL: https://search.murata.co.jp/Ceramy/image/img/A01X/G101/ENG/GRM033R6YA104KE14-01.pdf; ComponentLink2Description: DigiKey Link; ComponentLink2URL: http://digikey.com/product-detail/en/murata-electronics/GRM033R6YA104KE14D/490-10430-1-ND/5026320; Device Package: 0201 (0603 Metric); LastUpdated: 9/2/2020 12:58:08 AM; Lifecycle Status: Active; Minimum Order: 1; Mounting Type: Surface Mount, MLCC; Operating Temperature: -55°C ~ 85°C; Package / Case: 0201 (0603 Metric); Packaging: TapeAndReel; PartId: 1517; Part Status: Active; Price: 0.01; Series: GRM; Size / Dimension: 0.024" L x 0.012" W (0.60mm x 0.30mm); Supplier 1: DigiKey; Supplier Part Number 1: 490-10430-1-ND; Temperature Coefficient: X5R; Thickness (Max): 0.013" (0.33mm); Voltage - Rated: 35V
footprint CAP 0201_0603
pins: 1, 2

## GRM033R6YA104ME14D
designator C?, comment 0.1µF
CAP CER 0.1UF 35V X5R 0201; Part Number: GRM033R6YA104ME14D; Manufacturer: Murata Electronics; Tolerance: ±20%; Value: 0.1µF; Applications: General Purpose; Capacitance: 0.1µF; ComponentLink1Description: Datasheet; ComponentLink1URL: https://search.murata.co.jp/Ceramy/image/img/A01X/G101/ENG/GRM033R6YA104ME14-01.pdf; ComponentLink2Description: DigiKey Link; ComponentLink2URL: http://digikey.com/product-detail/en/murata-electronics/GRM033R6YA104ME14D/490-10431-1-ND/5026321; Device Package: 0201 (0603 Metric); LastUpdated: 9/2/2020 1:00:17 AM; Lifecycle Status: Active; Minimum Order: 1; Mounting Type: Surface Mount, MLCC; Operating Temperature: -55°C ~ 85°C; Package / Case: 0201 (0603 Metric); Packaging: TapeAndReel; PartId: 17; Part Status: Active; Price: 0.01; Series: GRM; Size / Dimension: 0.024" L x 0.012" W (0.60mm x 0.30mm); Supplier 1: DigiKey; Supplier Part Number 1: 490-10431-1-ND; Temperature Coefficient: X5R; Thickness (Max): 0.013" (0.33mm); Voltage - Rated: 35V
footprint CAP 0201_0603
pins: 1, 2

## GRM033R60G105MEA2D
designator C?, comment 1µF
CAP CER 1UF 4V X5R 0201; Part Number: GRM033R60G105MEA2D; Manufacturer: Murata Electronics; Tolerance: ±20%; Value: 1µF; Applications: General Purpose; Capacitance: 1µF; ComponentLink1Description: Datasheet; ComponentLink1URL: https://search.murata.co.jp/Ceramy/image/img/A01X/G101/ENG/GRM033R60G105MEA2-03.pdf; ComponentLink2Description: DigiKey Link; ComponentLink2URL: http://digikey.com/product-detail/en/murata-electronics/GRM033R60G105MEA2D/490-11352-1-ND/5333192; Device Package: 0201 (0603 Metric); LastUpdated: 9/2/2020 12:58:31 AM; Lifecycle Status: Active; Minimum Order: 1; Mounting Type: Surface Mount, MLCC; Operating Temperature: -55°C ~ 85°C; Package / Case: 0201 (0603 Metric); Packaging: TapeAndReel; PartId: 1262; Part Status: Active; Price: 0.02; Series: GRM; Size / Dimension: 0.024" L x 0.012" W (0.60mm x 0.30mm); Supplier 1: DigiKey; Supplier Part Number 1: 490-11352-1-ND; Temperature Coefficient: X5R; Thickness (Max): 0.014" (0.35mm); Voltage - Rated: 4V
footprint CAP 0201_0603
pins: 1, 2

## GRM033R60G155ME14D
designator C?, comment 1.5µF
CAP CER 1.5UF 4V X5R 0201; Part Number: GRM033R60G155ME14D; Manufacturer: Murata Electronics; Tolerance: ±20%; Value: 1.5µF; Applications: General Purpose; Capacitance: 1.5µF; ComponentLink1Description: Datasheet; ComponentLink1URL: https://www.murata.com/~/media/webrenewal/support/library/catalog/products/capacitor/mlcc/c02e.ashx?la=en-us; ComponentLink2Description: DigiKey Link; ComponentLink2URL: http://digikey.com/product-detail/en/murata-electronics/GRM033R60G155ME14D/490-13220-1-ND/5877428; Device Package: 0201 (0603 Metric); LastUpdated: 9/2/2020 1:00:15 AM; Lifecycle Status: Active; Minimum Order: 1; Mounting Type: Surface Mount, MLCC; Operating Temperature: -55°C ~ 85°C; Package / Case: 0201 (0603 Metric); Packaging: TapeAndReel; PartId: 50; Part Status: Active; Price: 0.05; Series: GRM; Size / Dimension: 0.024" L x 0.012" W (0.60mm x 0.30mm); Supplier 1: DigiKey; Supplier Part Number 1: 490-13220-1-ND; Temperature Coefficient: X5R; Thickness (Max): 0.013" (0.33mm); Voltage - Rated: 4V
footprint CAP 0201_0603
pins: 1, 2

## GRM033R60G224ME15D
designator C?, comment 0.22µF
CAP CER 0.22UF 4V X5R 0201; Part Number: GRM033R60G224ME15D; Manufacturer: Murata Electronics; Tolerance: ±20%; Value: 0.22µF; Applications: General Purpose; Capacitance: 0.22µF; ComponentLink1Description: Datasheet; ComponentLink1URL: https://search.murata.co.jp/Ceramy/image/img/A01X/G101/ENG/GRM033R60G224ME15-01.pdf; ComponentLink2Description: DigiKey Link; ComponentLink2URL: http://digikey.com/product-detail/en/murata-electronics/GRM033R60G224ME15D/490-12685-1-ND/5797654; Device Package: 0201 (0603 Metric); LastUpdated: 9/2/2020 12:58:16 AM; Lifecycle Status: Active; Minimum Order: 1; Mounting Type: Surface Mount, MLCC; Operating Temperature: -55°C ~ 85°C; Package / Case: 0201 (0603 Metric); Packaging: TapeAndReel; PartId: 1424; Part Status: Active; Price: 0.01; Series: GRM; Size / Dimension: 0.024" L x 0.012" W (0.60mm x 0.30mm); Supplier 1: DigiKey; Supplier Part Number 1: 490-12685-1-ND; Temperature Coefficient: X5R; Thickness (Max): 0.013" (0.33mm); Voltage - Rated: 4V
footprint CAP 0201_0603
pins: 1, 2

## GRM033R60G225ME47D
designator C?, comment 2.2µF
CAP CER 2.2UF 4V X5R 0201; Part Number: GRM033R60G225ME47D; Manufacturer: Murata Electronics; Tolerance: ±20%; Value: 2.2µF; Applications: General Purpose; Capacitance: 2.2µF; ComponentLink1Description: Datasheet; ComponentLink1URL: https://www.murata.com/~/media/webrenewal/support/library/catalog/products/capacitor/mlcc/c02e.ashx?la=en-us; ComponentLink2Description: DigiKey Link; ComponentLink2URL: http://digikey.com/product-detail/en/murata-electronics/GRM033R60G225ME47D/490-13222-1-ND/5877430; Device Package: 0201 (0603 Metric); LastUpdated: 9/2/2020 12:58:13 AM; Lifecycle Status: Active; Minimum Order: 1; Mounting Type: Surface Mount, MLCC; Operating Temperature: -55°C ~ 85°C; Package / Case: 0201 (0603 Metric); Packaging: TapeAndReel; PartId: 1462; Part Status: Active; Price: 0.03; Series: GRM; Size / Dimension: 0.024" L x 0.012" W (0.60mm x 0.30mm); Supplier 1: DigiKey; Supplier Part Number 1: 490-13222-1-ND; Temperature Coefficient: X5R; Thickness (Max): 0.015" (0.39mm); Voltage - Rated: 4V
footprint CAP 0201_0603
pins: 1, 2

## GRM033R60G474ME90D
designator C?, comment 0.47µF
CAP CER 0.47UF 4V X5R 0201; Part Number: GRM033R60G474ME90D; Manufacturer: Murata Electronics; Tolerance: ±20%; Value: 0.47µF; Applications: General Purpose; Capacitance: 0.47µF; ComponentLink1Description: Datasheet; ComponentLink1URL: https://search.murata.co.jp/Ceramy/image/img/A01X/G101/ENG/GRM033R60G474ME90-01.pdf; ComponentLink2Description: DigiKey Link; ComponentLink2URL: http://digikey.com/product-detail/en/murata-electronics/GRM033R60G474ME90D/490-10405-1-ND/5026282; Device Package: 0201 (0603 Metric); LastUpdated: 9/2/2020 12:58:30 AM; Lifecycle Status: Active; Minimum Order: 1; Mounting Type: Surface Mount, MLCC; Operating Temperature: -55°C ~ 85°C; Package / Case: 0201 (0603 Metric); Packaging: TapeAndReel; PartId: 1274; Part Status: Active; Price: 0.02; Series: GRM; Size / Dimension: 0.024" L x 0.012" W (0.60mm x 0.30mm); Supplier 1: DigiKey; Supplier Part Number 1: 490-10405-1-ND; Temperature Coefficient: X5R; Thickness (Max): 0.013" (0.33mm); Voltage - Rated: 4V
footprint CAP 0201_0603
pins: 1, 2

## GRM033R60J103KA01D
designator C?, comment 10000pF
CAP CER 10000PF 6.3V X5R 0201; Part Number: GRM033R60J103KA01D; Manufacturer: Murata Electronics; Tolerance: ±10%; Value: 10000pF; Applications: General Purpose; Capacitance: 10000pF; ComponentLink1Description: Datasheet; ComponentLink1URL: https://www.murata.com/~/media/webrenewal/support/library/catalog/products/capacitor/mlcc/c02e.ashx?la=en-us; ComponentLink2Description: DigiKey Link; ComponentLink2URL: http://digikey.com/product-detail/en/murata-electronics/GRM033R60J103KA01D/490-5403-1-ND/2175210; Device Package: 0201 (0603 Metric); LastUpdated: 9/2/2020 12:59:28 AM; Lifecycle Status: Active; Minimum Order: 1; Mounting Type: Surface Mount, MLCC; Operating Temperature: -55°C ~ 85°C; Package / Case: 0201 (0603 Metric); Packaging: CutTape; PartId: 605; Part Status: Active; Price: 0.10; Series: GRM; Size / Dimension: 0.024" L x 0.012" W (0.60mm x 0.30mm); Supplier 1: DigiKey; Supplier Part Number 1: 490-5403-1-ND; Temperature Coefficient: X5R; Thickness (Max): 0.013" (0.33mm); Voltage - Rated: 6.3V
footprint CAP 0201_0603
pins: 1, 2

## GRM033R60J104JE19D
designator C?, comment 0.1µF
CAP CER 0.1UF 6.3V X5R 0201; Part Number: GRM033R60J104JE19D; Manufacturer: Murata Electronics; Tolerance: ±5%; Value: 0.1µF; Applications: General Purpose; Capacitance: 0.1µF; ComponentLink1Description: Datasheet; ComponentLink1URL: https://search.murata.co.jp/Ceramy/image/img/A01X/G101/ENG/GRM033R60J104JE19-01.pdf; ComponentLink2Description: DigiKey Link; ComponentLink2URL: http://digikey.com/product-detail/en/murata-electronics/GRM033R60J104JE19D/490-16364-1-ND/7363346; Device Package: 0201 (0603 Metric); LastUpdated: 9/2/2020 12:58:19 AM; Lifecycle Status: Active; Minimum Order: 1; Mounting Type: Surface Mount, MLCC; Operating Temperature: -55°C ~ 85°C; Package / Case: 0201 (0603 Metric); Packaging: CutTape; PartId: 1394; Part Status: Active; Price: 0.10; Series: GRM; Size / Dimension: 0.024" L x 0.012" W (0.60mm x 0.30mm); Supplier 1: DigiKey; Supplier Part Number 1: 490-16364-1-ND; Temperature Coefficient: X5R; Thickness (Max): 0.013" (0.33mm); Voltage - Rated: 6.3V
footprint CAP 0201_0603
pins: 1, 2

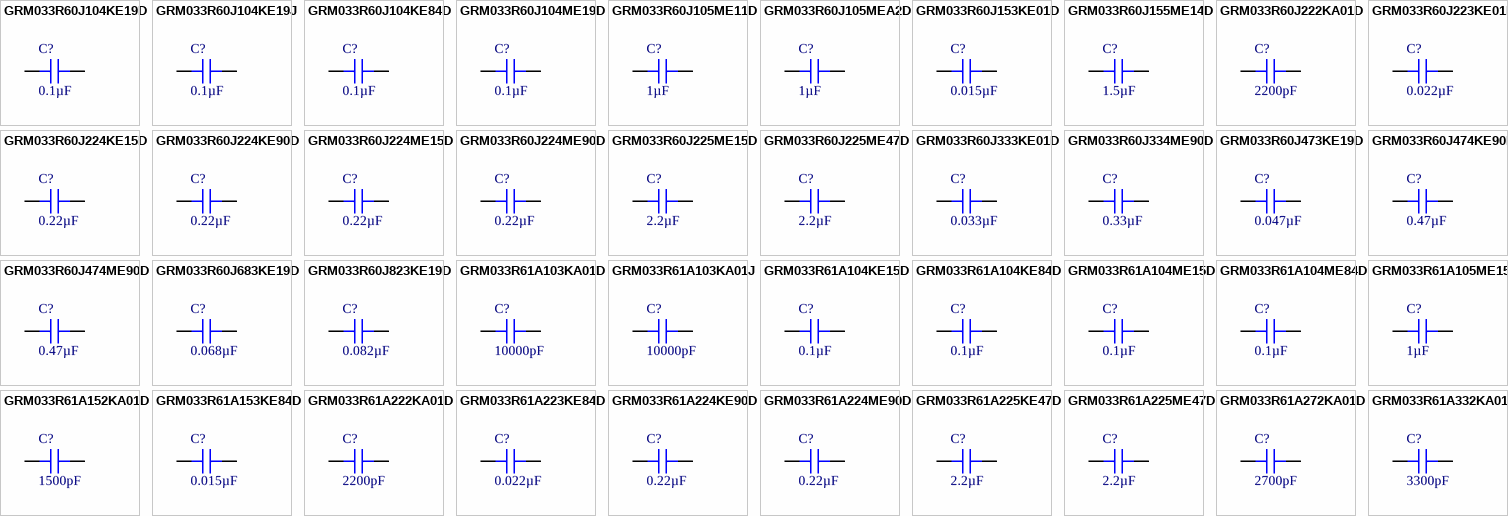
[diagram p26: symbols GRM033R60J104KE19D to GRM033R61A332KA01D]

## GRM033R60J104KE19D
designator C?, comment 0.1µF
CAP CER 0.1UF 6.3V X5R 0201; Part Number: GRM033R60J104KE19D; Manufacturer: Murata Electronics; Tolerance: ±10%; Value: 0.1µF; Applications: General Purpose; Capacitance: 0.1µF; ComponentLink1Description: Datasheet; ComponentLink1URL: https://search.murata.co.jp/Ceramy/image/img/A01X/G101/ENG/GRM033R60J104KE19-01.pdf; ComponentLink2Description: DigiKey Link; ComponentLink2URL: http://digikey.com/product-detail/en/murata-electronics/GRM033R60J104KE19D/490-3167-1-ND/702708; Device Package: 0201 (0603 Metric); LastUpdated: 9/2/2020 12:57:56 AM; Lifecycle Status: Active; Minimum Order: 1; Mounting Type: Surface Mount, MLCC; Operating Temperature: -55°C ~ 85°C; Package / Case: 0201 (0603 Metric); Packaging: CutTape; PartId: 1645; Part Status: Active; Price: 0.10; Series: GRM; Size / Dimension: 0.024" L x 0.012" W (0.60mm x 0.30mm); Supplier 1: DigiKey; Supplier Part Number 1: 490-3167-1-ND; Temperature Coefficient: X5R; Thickness (Max): 0.013" (0.33mm); Voltage - Rated: 6.3V
footprint CAP 0201_0603
pins: 1, 2

## GRM033R60J104KE19J
designator C?, comment 0.1µF
CAP CER 0.1UF 6.3V X5R 0201; Part Number: GRM033R60J104KE19J; Manufacturer: Murata Electronics; Tolerance: ±10%; Value: 0.1µF; Applications: General Purpose; Capacitance: 0.1µF; ComponentLink1Description: Datasheet; ComponentLink1URL: https://search.murata.co.jp/Ceramy/image/img/A01X/G101/ENG/GRM033R60J104KE19-01.pdf; ComponentLink2Description: DigiKey Link; ComponentLink2URL: http://digikey.com/product-detail/en/murata-electronics/GRM033R60J104KE19J/490-8155-1-ND/4380448; Device Package: 0201 (0603 Metric); LastUpdated: 9/2/2020 12:59:45 AM; Lifecycle Status: Active; Minimum Order: 1; Mounting Type: Surface Mount, MLCC; Operating Temperature: -55°C ~ 85°C; Package / Case: 0201 (0603 Metric); Packaging: CutTape; PartId: 402; Part Status: Active; Price: 0.10; Series: GRM; Size / Dimension: 0.024" L x 0.012" W (0.60mm x 0.30mm); Supplier 1: DigiKey; Supplier Part Number 1: 490-8155-1-ND; Temperature Coefficient: X5R; Thickness (Max): 0.013" (0.33mm); Voltage - Rated: 6.3V
footprint CAP 0201_0603
pins: 1, 2

## GRM033R60J104KE84D
designator C?, comment 0.1µF
CAP CER 0.1UF 6.3V X5R 0201; Part Number: GRM033R60J104KE84D; Manufacturer: Murata Electronics; Tolerance: ±10%; Value: 0.1µF; Applications: General Purpose; Capacitance: 0.1µF; ComponentLink1Description: Datasheet; ComponentLink1URL: https://search.murata.co.jp/Ceramy/image/img/A01X/G101/ENG/GRM033R60J104KE84-01.pdf; ComponentLink2Description: DigiKey Link; ComponentLink2URL: http://digikey.com/product-detail/en/murata-electronics/GRM033R60J104KE84D/490-14451-1-ND/6606912; Device Package: 0201 (0603 Metric); LastUpdated: 9/2/2020 1:00:13 AM; Lifecycle Status: Active; Minimum Order: 1; Mounting Type: Surface Mount, MLCC; Operating Temperature: -55°C ~ 85°C; Package / Case: 0201 (0603 Metric); Packaging: TapeAndReel; PartId: 68; Part Status: Active; Price: 0.01; Series: GRM; Size / Dimension: 0.024" L x 0.012" W (0.60mm x 0.30mm); Supplier 1: DigiKey; Supplier Part Number 1: 490-14451-1-ND; Temperature Coefficient: X5R; Thickness (Max): 0.013" (0.33mm); Voltage - Rated: 6.3V
footprint CAP 0201_0603
pins: 1, 2

## GRM033R60J104ME19D
designator C?, comment 0.1µF
CAP CER 0.1UF 6.3V X5R 0201; Part Number: GRM033R60J104ME19D; Manufacturer: Murata Electronics; Tolerance: ±20%; Value: 0.1µF; Applications: General Purpose; Capacitance: 0.1µF; ComponentLink1Description: Datasheet; ComponentLink1URL: https://www.murata.com/~/media/webrenewal/support/library/catalog/products/capacitor/mlcc/c02e.ashx?la=en-us; ComponentLink2Description: DigiKey Link; ComponentLink2URL: http://digikey.com/product-detail/en/murata-electronics/GRM033R60J104ME19D/490-5404-1-ND/2175211; Device Package: 0201 (0603 Metric); LastUpdated: 9/2/2020 12:57:57 AM; Lifecycle Status: Active; Minimum Order: 1; Mounting Type: Surface Mount, MLCC; Operating Temperature: -55°C ~ 85°C; Package / Case: 0201 (0603 Metric); Packaging: CutTape; PartId: 1642; Part Status: Active; Price: 0.10; Series: GRM; Size / Dimension: 0.024" L x 0.012" W (0.60mm x 0.30mm); Supplier 1: DigiKey; Supplier Part Number 1: 490-5404-1-ND; Temperature Coefficient: X5R; Thickness (Max): 0.013" (0.33mm); Voltage - Rated: 6.3V
footprint CAP 0201_0603
pins: 1, 2

## GRM033R60J105ME11D
designator C?, comment 1µF
CAP CER 1UF 6.3V X5R 0201; Part Number: GRM033R60J105ME11D; Manufacturer: Murata Electronics; Tolerance: ±20%; Value: 1µF; Applications: General Purpose; Capacitance: 1µF; ComponentLink1Description: Datasheet; ComponentLink1URL: https://search.murata.co.jp/Ceramy/image/img/A01X/G101/ENG/GRM033R60J105ME11-01.pdf; ComponentLink2Description: DigiKey Link; ComponentLink2URL: http://digikey.com/product-detail/en/murata-electronics/GRM033R60J105ME11D/490-16363-1-ND/7363345; Device Package: 0201 (0603 Metric); LastUpdated: 9/2/2020 12:58:31 AM; Lifecycle Status: Active; Minimum Order: 1; Mounting Type: Surface Mount, MLCC; Operating Temperature: -55°C ~ 85°C; Package / Case: 0201 (0603 Metric); Packaging: TapeAndReel; PartId: 1261; Part Status: Active; Price: 0.01; Series: GRM; Size / Dimension: 0.024" L x 0.012" W (0.60mm x 0.30mm); Supplier 1: DigiKey; Supplier Part Number 1: 490-16363-1-ND; Temperature Coefficient: X5R; Thickness (Max): 0.013" (0.33mm); Voltage - Rated: 6.3V
footprint CAP 0201_0603
pins: 1, 2